# Altium integrated library Micron Memory Parallel NOR Flash.IntLib: 720 symbols (part 36 of 216)
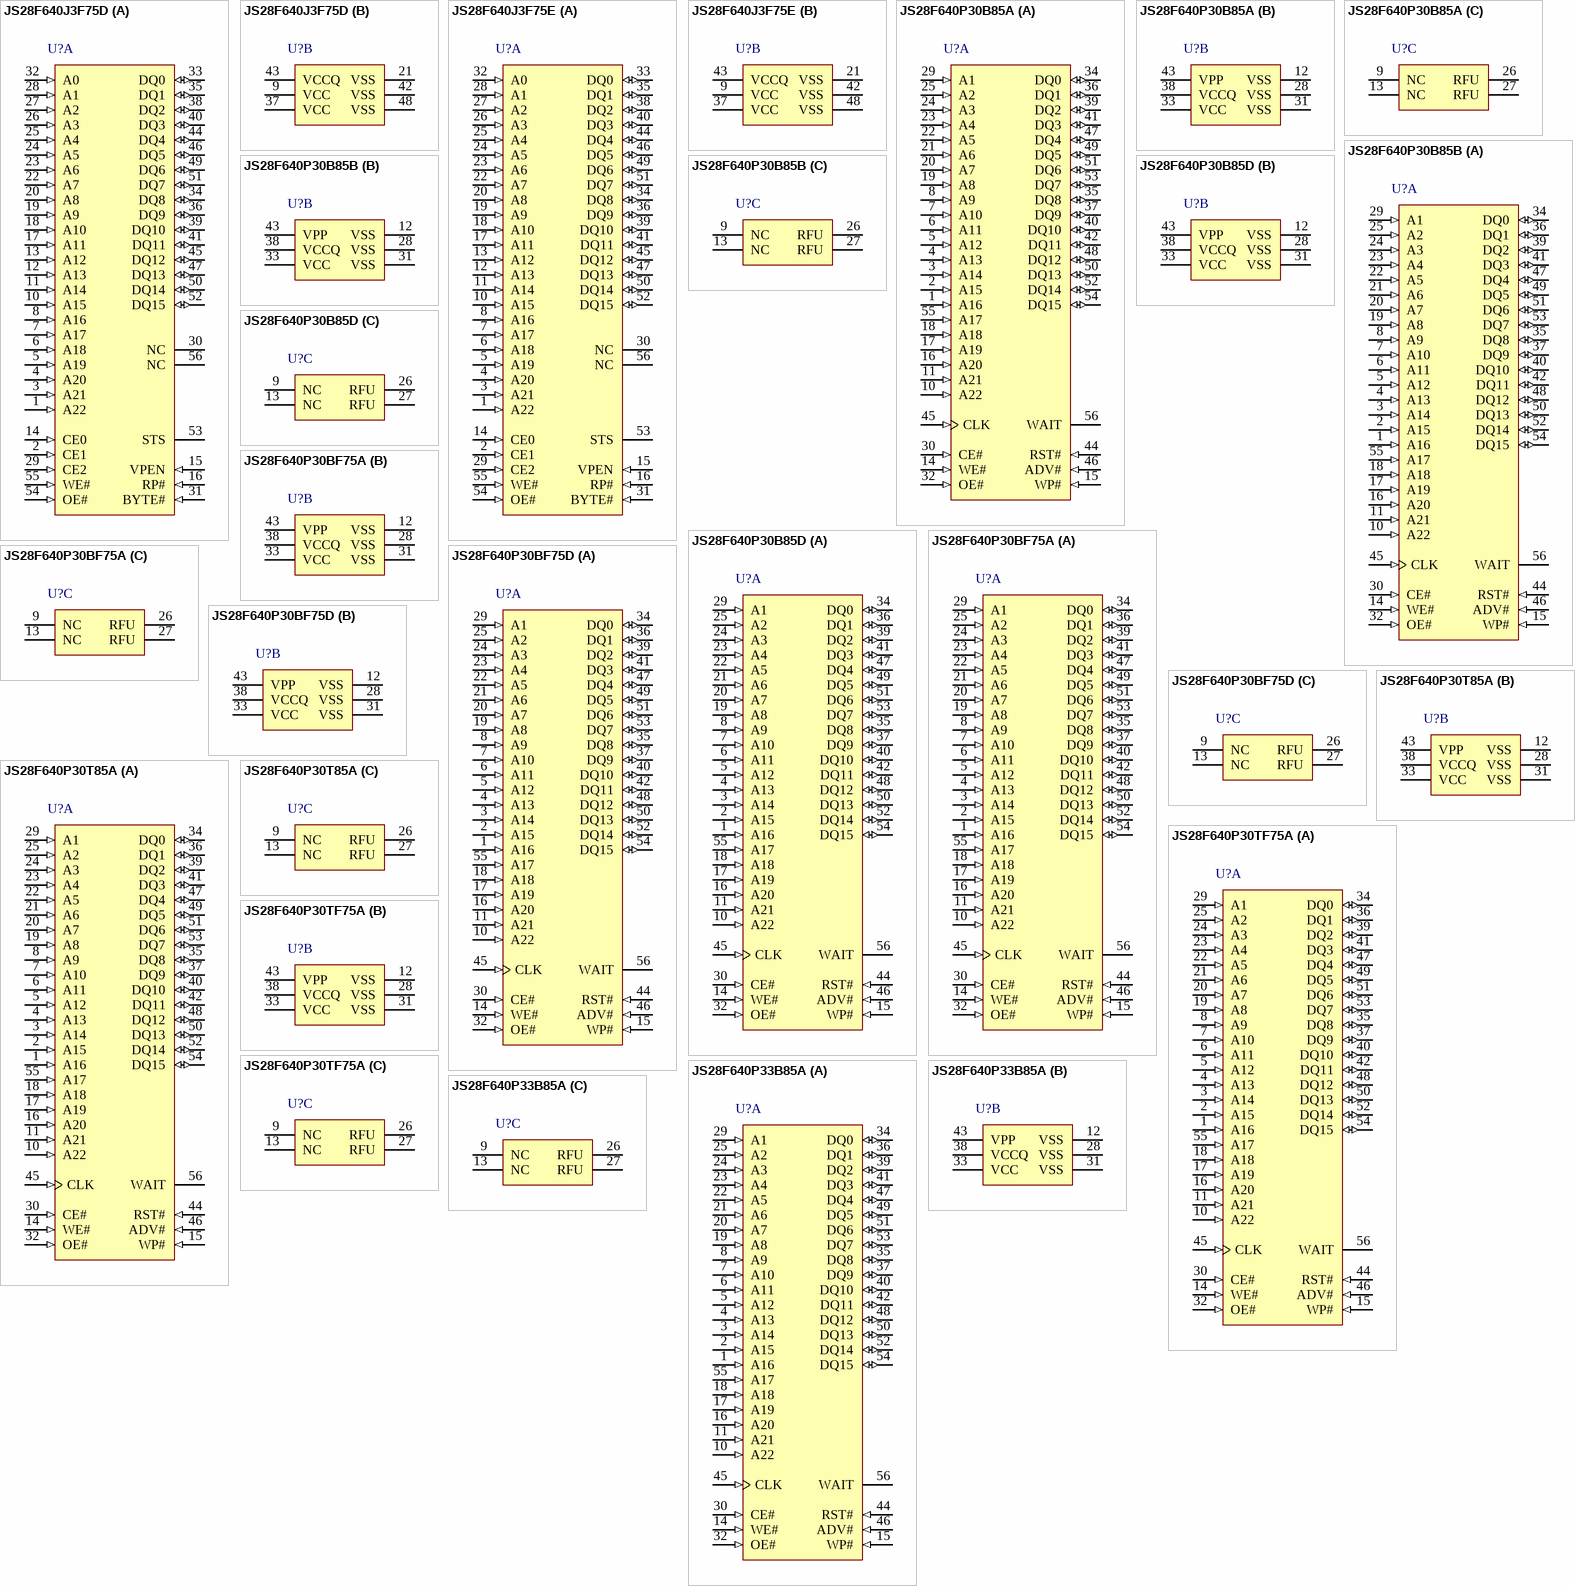
[diagram p93: symbols JS28F640J3F75D to JS28F640P33B85A]

## JS28F640P33B85A
designator U?
64 Mb (x16) Parallel NOR Flash Memory, 85 ns, 2.3 to 3.6 V, 56-pin TSOP (JS), Tray; Part Family: P33; Manufacturer: Micron; PartNumber: JS28F640P33B85A; Density: 64Mb; Op Temp: -40C to +85C; Speed: 85ns; Voltage: 2.3V-3.6V; DatasheetVersion: Rev. 05; PackageVersion: Rev. 12; PackageReference: MICT-JS-56; PackageDescription: 56-Pin TSOP, 18.4 X 14 mm, Pitch 0.5 mm; RoHS: Yes; Width: x16; Mounting Technology: Surface Mount; ComponentLink1Description: Manufacturer URL; ComponentLink1URL: http://www.micron.com/; ComponentLink2Description: Datasheet; ComponentLink2URL: http://www.micron.com/~/media/Documents/Products/Data%20Sheet/NOR%20Flash/Parallel/P33/314749_P33_130nm_Discrete_DS.pdf; ComponentLink3Description: Package Specification; ComponentLink3URL: http://www.micron.com/~/media/Documents/Products/Data%20Sheet/NOR%20Flash/Parallel/P33/320003_P33_65nm_MLC_256MDiscrete_512MStack_DS.pdf
footprint MICT-JS-56_N (SOP, 56-Leads, Body 18.6x14.2mm, Pitch 0.5mm, IPC Medium Density)
part A pins: 1 A16 (in) "Address Input: Device Address Input. 128-Mbit: A[23:1]; 64-Mbit: A[22:1]. WARNING: The active address pins unused in design should not be left float. Please tie them to VCCQ or VSS according to specific design requirements.", 2 A15 (in) "Address Input: Device Address Input. 128-Mbit: A[23:1]; 64-Mbit: A[22:1]. WARNING: The active address pins unused in design should not be left float. Please tie them to VCCQ or VSS according to specific design requirements.", 3 A14 (in) "Address Input: Device Address Input. 128-Mbit: A[23:1]; 64-Mbit: A[22:1]. WARNING: The active address pins unused in design should not be left float. Please tie them to VCCQ or VSS according to specific design requirements.", 4 A13 (in) "Address Input: Device Address Input. 128-Mbit: A[23:1]; 64-Mbit: A[22:1]. WARNING: The active address pins unused in design should not be left float. Please tie them to VCCQ or VSS according to specific design requirements.", 5 A12 (in) "Address Input: Device Address Input. 128-Mbit: A[23:1]; 64-Mbit: A[22:1]. WARNING: The active address pins unused in design should not be left float. Please tie them to VCCQ or VSS according to specific design requirements.", 6 A11 (in) "Address Input: Device Address Input. 128-Mbit: A[23:1]; 64-Mbit: A[22:1]. WARNING: The active address pins unused in design should not be left float. Please tie them to VCCQ or VSS according to specific design requirements.", 7 A10 (in) "Address Input: Device Address Input. 128-Mbit: A[23:1]; 64-Mbit: A[22:1]. WARNING: The active address pins unused in design should not be left float. Please tie them to VCCQ or VSS according to specific design requirements.", 8 A9 (in) "Address Input: Device Address Input. 128-Mbit: A[23:1]; 64-Mbit: A[22:1]. WARNING: The active address pins unused in design should not be left float. Please tie them to VCCQ or VSS according to specific design requirements.", 10 A22 (in) "Address Input: Device Address Input. 128-Mbit: A[23:1]; 64-Mbit: A[22:1]. WARNING: The active address pins unused in design should not be left float. Please tie them to VCCQ or VSS according to specific design requirements.", 11 A21 (in) "Address Input: Device Address Input. 128-Mbit: A[23:1]; 64-Mbit: A[22:1]. WARNING: The active address pins unused in design should not be left float. Please tie them to VCCQ or VSS according to specific design requirements.", 14 WE# (in) "WRITE ENABLE: Active low input. WE# controls writes to the device. Address and data are latched on the rising edge of WE# or CE#, whichever occurs first.", 15 WP# (in) "WRITE PROTECT: Active low input. WP# low enables the lock-down mechanism. Blocks in lockdown cannot be unlocked with the Unlock command. WP# high overrides the lock-down function enabling blocks to be erased or programmed (See Datasheet)", 16 A20 (in) "Address Input: Device Address Input. 128-Mbit: A[23:1]; 64-Mbit: A[22:1]. WARNING: The active address pins unused in design should not be left float. Please tie them to VCCQ or VSS according to specific design requirements.", 17 A19 (in) "Address Input: Device Address Input. 128-Mbit: A[23:1]; 64-Mbit: A[22:1]. WARNING: The active address pins unused in design should not be left float. Please tie them to VCCQ or VSS according to specific design requirements.", 18 A18 (in) "Address Input: Device Address Input. 128-Mbit: A[23:1]; 64-Mbit: A[22:1]. WARNING: The active address pins unused in design should not be left float. Please tie them to VCCQ or VSS according to specific design requirements.", 19 A8 (in) "Address Input: Device Address Input. 128-Mbit: A[23:1]; 64-Mbit: A[22:1]. WARNING: The active address pins unused in design should not be left float. Please tie them to VCCQ or VSS according to specific design requirements.", 20 A7 (in) "Address Input: Device Address Input. 128-Mbit: A[23:1]; 64-Mbit: A[22:1]. WARNING: The active address pins unused in design should not be left float. Please tie them to VCCQ or VSS according to specific design requirements.", 21 A6 (in) "Address Input: Device Address Input. 128-Mbit: A[23:1]; 64-Mbit: A[22:1]. WARNING: The active address pins unused in design should not be left float. Please tie them to VCCQ or VSS according to specific design requirements.", 22 A5 (in) "Address Input: Device Address Input. 128-Mbit: A[23:1]; 64-Mbit: A[22:1]. WARNING: The active address pins unused in design should not be left float. Please tie them to VCCQ or VSS according to specific design requirements.", 23 A4 (in) "Address Input: Device Address Input. 128-Mbit: A[23:1]; 64-Mbit: A[22:1]. WARNING: The active address pins unused in design should not be left float. Please tie them to VCCQ or VSS according to specific design requirements.", 24 A3 (in) "Address Input: Device Address Input. 128-Mbit: A[23:1]; 64-Mbit: A[22:1]. WARNING: The active address pins unused in design should not be left float. Please tie them to VCCQ or VSS according to specific design requirements.", 25 A2 (in) "Address Input: Device Address Input. 128-Mbit: A[23:1]; 64-Mbit: A[22:1]. WARNING: The active address pins unused in design should not be left float. Please tie them to VCCQ or VSS according to specific design requirements.", 29 A1 (in) "Address Input: Device Address Input. 128-Mbit: A[23:1]; 64-Mbit: A[22:1]. WARNING: The active address pins unused in design should not be left float. Please tie them to VCCQ or VSS according to specific design requirements.", 30 CE# (in) "CHIP ENABLE: Active low input. CE# low selects the associated flash memory die. When asserted, flash internal control logic, input buffers, decoders, and sense amplifiers are active. When deasserted, the associated flash die (See Datasheet)", 32 OE# (in) "OUTPUT ENABLE: Active low input. OE# low enables the device’s output data buffers during read cycles. OE# high places the data outputs and WAIT in High-Z.", 34 DQ0 (io) "DATA INPUT/OUTPUTS: Inputs data and commands during write cycles; outputs data during reads of memory, Status Register, OTP Register, and Read Configuration Register. Data balls float when the CE# or OE# are deasserted. Data (See Datasheet)", 35 DQ8 (io) "DATA INPUT/OUTPUTS: Inputs data and commands during write cycles; outputs data during reads of memory, Status Register, OTP Register, and Read Configuration Register. Data balls float when the CE# or OE# are deasserted. Data (See Datasheet)", 36 DQ1 (io) "DATA INPUT/OUTPUTS: Inputs data and commands during write cycles; outputs data during reads of memory, Status Register, OTP Register, and Read Configuration Register. Data balls float when the CE# or OE# are deasserted. Data (See Datasheet)", 37 DQ9 (io) "DATA INPUT/OUTPUTS: Inputs data and commands during write cycles; outputs data during reads of memory, Status Register, OTP Register, and Read Configuration Register. Data balls float when the CE# or OE# are deasserted. Data (See Datasheet)", 39 DQ2 (io) "DATA INPUT/OUTPUTS: Inputs data and commands during write cycles; outputs data during reads of memory, Status Register, OTP Register, and Read Configuration Register. Data balls float when the CE# or OE# are deasserted. Data (See Datasheet)", 40 DQ10 (io) "DATA INPUT/OUTPUTS: Inputs data and commands during write cycles; outputs data during reads of memory, Status Register, OTP Register, and Read Configuration Register. Data balls float when the CE# or OE# are deasserted. Data (See Datasheet)", 41 DQ3 (io) "DATA INPUT/OUTPUTS: Inputs data and commands during write cycles; outputs data during reads of memory, Status Register, OTP Register, and Read Configuration Register. Data balls float when the CE# or OE# are deasserted. Data (See Datasheet)", 42 DQ11 (io) "DATA INPUT/OUTPUTS: Inputs data and commands during write cycles; outputs data during reads of memory, Status Register, OTP Register, and Read Configuration Register. Data balls float when the CE# or OE# are deasserted. Data (See Datasheet)", 44 RST# (in) "RESET: Active low input. RST# resets internal automation and inhibits write operations. This provides data protection during power transitions. RST# high enables normal operation. Exit from reset places the device in (See Datasheet)", 45 CLK (in) "CLOCK: Synchronizes the device with the system’s bus frequency in synchronous-read mode. During synchronous read operations, addresses are latched on the rising edge of ADV#, or on the next valid CLK edge with ADV# low, (See Datasheet)", 46 ADV# (in) "ADDRESS VALID: Active low input. During synchronous read operations, addresses are latched on the rising edge of ADV#, or on the next valid CLK edge with ADV# low, whichever occurs first. In asynchronous mode, the address is (See Datasheet)", 47 DQ4 (io) "DATA INPUT/OUTPUTS: Inputs data and commands during write cycles; outputs data during reads of memory, Status Register, OTP Register, and Read Configuration Register. Data balls float when the CE# or OE# are deasserted. Data (See Datasheet)", 48 DQ12 (io) "DATA INPUT/OUTPUTS: Inputs data and commands during write cycles; outputs data during reads of memory, Status Register, OTP Register, and Read Configuration Register. Data balls float when the CE# or OE# are deasserted. Data (See Datasheet)", 49 DQ5 (io) "DATA INPUT/OUTPUTS: Inputs data and commands during write cycles; outputs data during reads of memory, Status Register, OTP Register, and Read Configuration Register. Data balls float when the CE# or OE# are deasserted. Data (See Datasheet)", 50 DQ13 (io) "DATA INPUT/OUTPUTS: Inputs data and commands during write cycles; outputs data during reads of memory, Status Register, OTP Register, and Read Configuration Register. Data balls float when the CE# or OE# are deasserted. Data (See Datasheet)", 51 DQ6 (io) "DATA INPUT/OUTPUTS: Inputs data and commands during write cycles; outputs data during reads of memory, Status Register, OTP Register, and Read Configuration Register. Data balls float when the CE# or OE# are deasserted. Data (See Datasheet)", 52 DQ14 (io) "DATA INPUT/OUTPUTS: Inputs data and commands during write cycles; outputs data during reads of memory, Status Register, OTP Register, and Read Configuration Register. Data balls float when the CE# or OE# are deasserted. Data (See Datasheet)", 53 DQ7 (io) "DATA INPUT/OUTPUTS: Inputs data and commands during write cycles; outputs data during reads of memory, Status Register, OTP Register, and Read Configuration Register. Data balls float when the CE# or OE# are deasserted. Data (See Datasheet)", 54 DQ15 (io) "DATA INPUT/OUTPUTS: Inputs data and commands during write cycles; outputs data during reads of memory, Status Register, OTP Register, and Read Configuration Register. Data balls float when the CE# or OE# are deasserted. Data (See Datasheet)", 55 A17 (in) "Address Input: Device Address Input. 128-Mbit: A[23:1]; 64-Mbit: A[22:1]. WARNING: The active address pins unused in design should not be left float. Please tie them to VCCQ or VSS according to specific design requirements.", 56 WAIT (hiz) "WAIT: Indicates data valid in synchronous array or non-array burst reads. RCR.10, (WT) determines its polarity when asserted. WAIT’s active output is VOL or VOH when CE# and OE# are VIL. WAIT is high-Z if CE# or OE# is VIH."
part B pins: 12 VSS (power) "GROUND: Connect to system ground. Do not float any VSS connection.", 28 VSS (power) "GROUND: Connect to system ground. Do not float any VSS connection.", 31 VSS (power) "GROUND: Connect to system ground. Do not float any VSS connection.", 33 VCC (power) "DEVICE CORE POWER SUPPLY: Core (logic) source voltage. Writes to the flash array are inhibited when VCC =< VLKO. Operations at invalid VCC voltages should not be attempted.", 38 VCCQ (power) "OUTPUT POWER SUPPLY: Output-driver source voltage.", 43 VPP (power) "ERASE AND PROGRAM POWER: A valid voltage on this pin allows erasing or programming. Memory contents cannot be altered when VPP =< VPPLK. Block erase and program at invalid VPP voltages should not be attempted. Set VPP = VPPL (See Datasheet)"
part C pins: 9 NC "NO CONNECT: No internal connection; can be driven or floated.", 13 NC "NO CONNECT: No internal connection; can be driven or floated.", 26 RFU "RESERVED FOR FUTURE USE: Reserved by Numonyx for future device functionality and enhancement. These should be treated in the same way as a Don’t Use (DU) signal.", 27 RFU "RESERVED FOR FUTURE USE: Reserved by Numonyx for future device functionality and enhancement. These should be treated in the same way as a Don’t Use (DU) signal."

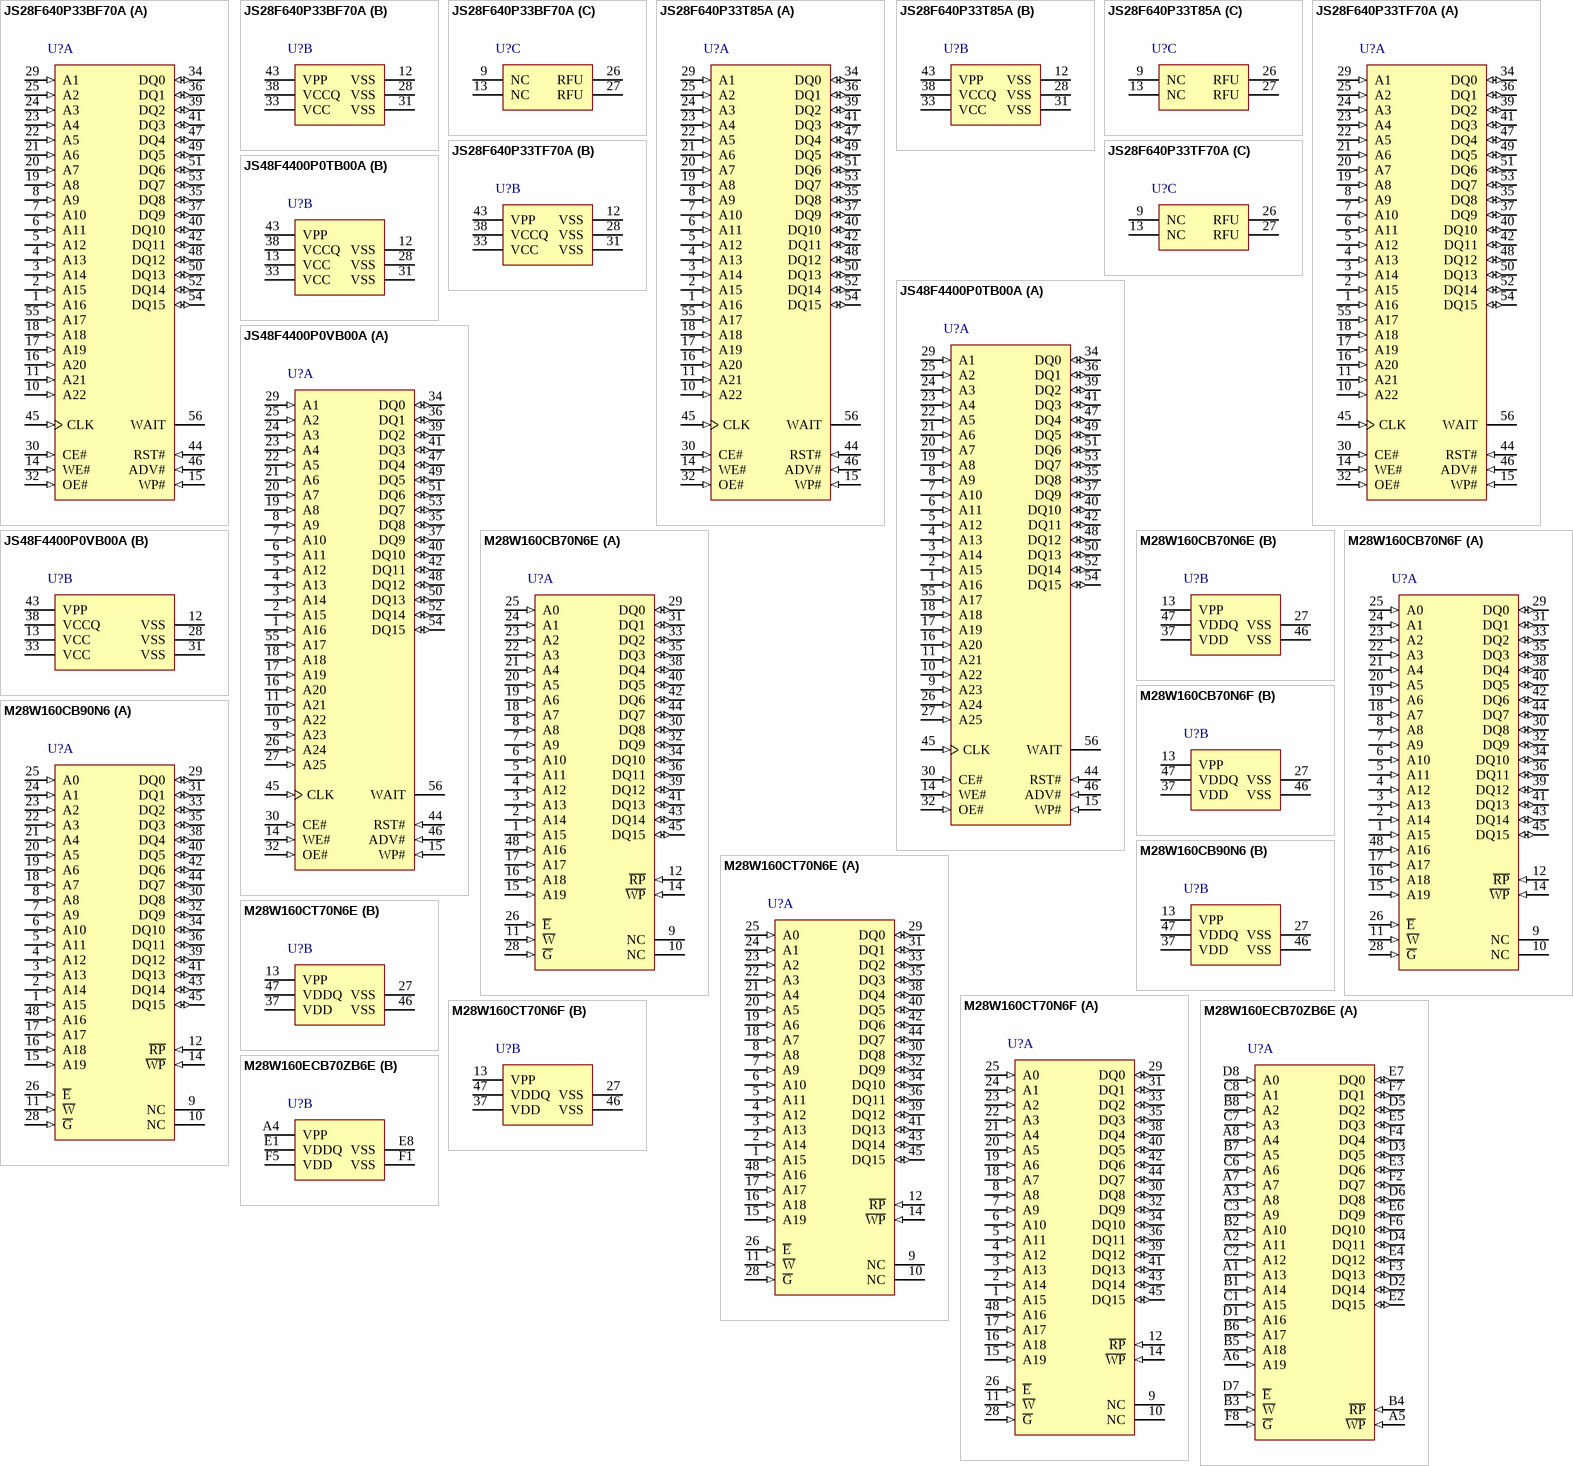
[diagram p10: symbols JS28F640P33BF70A to M28W160ECB70ZB6E]

## JS28F640P33BF70A
designator U?
64 Mb (x16) Parallel NOR Flash Memory, 70 ns, 2.3 to 3.6 V, 56-pin TSOP (JS), Tray; Part Family: P33; Manufacturer: Micron; PartNumber: JS28F640P33BF70A; Density: 64Mb; Op Temp: -40C to +85C; Speed: 70ns; Voltage: 2.3V-3.6V; DatasheetVersion: Rev.04; PackageVersion: Rev. 12; PackageReference: MICT-JS-56; PackageDescription: 56-Pin TSOP, 18.4 X 14 mm, Pitch 0.5 mm; RoHS: Yes; Width: x16; Mounting Technology: Surface Mount; ComponentLink1Description: Manufacturer URL; ComponentLink1URL: http://www.micron.com/; ComponentLink2Description: Datasheet; ComponentLink2URL: http://www.micron.com/~/media/Documents/Products/Data%20Sheet/NOR%20Flash/Parallel/P33/208034_P33_65nm_SBC_64M_128M_Discrete_DS.pdf; ComponentLink3Description: Package Specification; ComponentLink3URL: http://www.micron.com/~/media/Documents/Products/Data%20Sheet/NOR%20Flash/Parallel/P33/320003_P33_65nm_MLC_256MDiscrete_512MStack_DS.pdf
footprint MICT-JS-56_N (SOP, 56-Leads, Body 18.6x14.2mm, Pitch 0.5mm, IPC Medium Density)
part A pins: 1 A16 (in) "Address Input: Device Address Input. 128-Mbit: A[23:1]; 64-Mbit: A[22:1]. WARNING: The active address pins unused in design should not be left float. Please tie them to VCCQ or VSS according to specific design requirements.", 2 A15 (in) "Address Input: Device Address Input. 128-Mbit: A[23:1]; 64-Mbit: A[22:1]. WARNING: The active address pins unused in design should not be left float. Please tie them to VCCQ or VSS according to specific design requirements.", 3 A14 (in) "Address Input: Device Address Input. 128-Mbit: A[23:1]; 64-Mbit: A[22:1]. WARNING: The active address pins unused in design should not be left float. Please tie them to VCCQ or VSS according to specific design requirements.", 4 A13 (in) "Address Input: Device Address Input. 128-Mbit: A[23:1]; 64-Mbit: A[22:1]. WARNING: The active address pins unused in design should not be left float. Please tie them to VCCQ or VSS according to specific design requirements.", 5 A12 (in) "Address Input: Device Address Input. 128-Mbit: A[23:1]; 64-Mbit: A[22:1]. WARNING: The active address pins unused in design should not be left float. Please tie them to VCCQ or VSS according to specific design requirements.", 6 A11 (in) "Address Input: Device Address Input. 128-Mbit: A[23:1]; 64-Mbit: A[22:1]. WARNING: The active address pins unused in design should not be left float. Please tie them to VCCQ or VSS according to specific design requirements.", 7 A10 (in) "Address Input: Device Address Input. 128-Mbit: A[23:1]; 64-Mbit: A[22:1]. WARNING: The active address pins unused in design should not be left float. Please tie them to VCCQ or VSS according to specific design requirements.", 8 A9 (in) "Address Input: Device Address Input. 128-Mbit: A[23:1]; 64-Mbit: A[22:1]. WARNING: The active address pins unused in design should not be left float. Please tie them to VCCQ or VSS according to specific design requirements.", 10 A22 (in) "Address Input: Device Address Input. 128-Mbit: A[23:1]; 64-Mbit: A[22:1]. WARNING: The active address pins unused in design should not be left float. Please tie them to VCCQ or VSS according to specific design requirements.", 11 A21 (in) "Address Input: Device Address Input. 128-Mbit: A[23:1]; 64-Mbit: A[22:1]. WARNING: The active address pins unused in design should not be left float. Please tie them to VCCQ or VSS according to specific design requirements.", 14 WE# (in) "WRITE ENABLE: Active low input. WE# controls writes to the device. Address and data are latched on the rising edge of WE# or CE#, whichever occurs first.", 15 WP# (in) "WRITE PROTECT: Active low input. WP# low enables the lock-down mechanism. Blocks in lockdown cannot be unlocked with the Unlock command. WP# high overrides the lock-down function enabling blocks to be erased or programmed (See Datasheet)", 16 A20 (in) "Address Input: Device Address Input. 128-Mbit: A[23:1]; 64-Mbit: A[22:1]. WARNING: The active address pins unused in design should not be left float. Please tie them to VCCQ or VSS according to specific design requirements.", 17 A19 (in) "Address Input: Device Address Input. 128-Mbit: A[23:1]; 64-Mbit: A[22:1]. WARNING: The active address pins unused in design should not be left float. Please tie them to VCCQ or VSS according to specific design requirements.", 18 A18 (in) "Address Input: Device Address Input. 128-Mbit: A[23:1]; 64-Mbit: A[22:1]. WARNING: The active address pins unused in design should not be left float. Please tie them to VCCQ or VSS according to specific design requirements.", 19 A8 (in) "Address Input: Device Address Input. 128-Mbit: A[23:1]; 64-Mbit: A[22:1]. WARNING: The active address pins unused in design should not be left float. Please tie them to VCCQ or VSS according to specific design requirements.", 20 A7 (in) "Address Input: Device Address Input. 128-Mbit: A[23:1]; 64-Mbit: A[22:1]. WARNING: The active address pins unused in design should not be left float. Please tie them to VCCQ or VSS according to specific design requirements.", 21 A6 (in) "Address Input: Device Address Input. 128-Mbit: A[23:1]; 64-Mbit: A[22:1]. WARNING: The active address pins unused in design should not be left float. Please tie them to VCCQ or VSS according to specific design requirements.", 22 A5 (in) "Address Input: Device Address Input. 128-Mbit: A[23:1]; 64-Mbit: A[22:1]. WARNING: The active address pins unused in design should not be left float. Please tie them to VCCQ or VSS according to specific design requirements.", 23 A4 (in) "Address Input: Device Address Input. 128-Mbit: A[23:1]; 64-Mbit: A[22:1]. WARNING: The active address pins unused in design should not be left float. Please tie them to VCCQ or VSS according to specific design requirements.", 24 A3 (in) "Address Input: Device Address Input. 128-Mbit: A[23:1]; 64-Mbit: A[22:1]. WARNING: The active address pins unused in design should not be left float. Please tie them to VCCQ or VSS according to specific design requirements.", 25 A2 (in) "Address Input: Device Address Input. 128-Mbit: A[23:1]; 64-Mbit: A[22:1]. WARNING: The active address pins unused in design should not be left float. Please tie them to VCCQ or VSS according to specific design requirements.", 29 A1 (in) "Address Input: Device Address Input. 128-Mbit: A[23:1]; 64-Mbit: A[22:1]. WARNING: The active address pins unused in design should not be left float. Please tie them to VCCQ or VSS according to specific design requirements.", 30 CE# (in) "CHIP ENABLE: Active low input. CE# low selects the associated flash memory die. When asserted, flash internal control logic, input buffers, decoders, and sense amplifiers are active. When deasserted, the associated flash die (See Datasheet)", 32 OE# (in) "OUTPUT ENABLE: Active low input. OE# low enables the device’s output data buffers during read cycles. OE# high places the data outputs and WAIT in High-Z.", 34 DQ0 (io) "DATA INPUT/OUTPUTS: Inputs data and commands during write cycles; outputs data during reads of memory, Status Register, OTP Register, and Read Configuration Register. Data balls float when the CE# or OE# are deasserted. Data (See Datasheet)", 35 DQ8 (io) "DATA INPUT/OUTPUTS: Inputs data and commands during write cycles; outputs data during reads of memory, Status Register, OTP Register, and Read Configuration Register. Data balls float when the CE# or OE# are deasserted. Data (See Datasheet)", 36 DQ1 (io) "DATA INPUT/OUTPUTS: Inputs data and commands during write cycles; outputs data during reads of memory, Status Register, OTP Register, and Read Configuration Register. Data balls float when the CE# or OE# are deasserted. Data (See Datasheet)", 37 DQ9 (io) "DATA INPUT/OUTPUTS: Inputs data and commands during write cycles; outputs data during reads of memory, Status Register, OTP Register, and Read Configuration Register. Data balls float when the CE# or OE# are deasserted. Data (See Datasheet)", 39 DQ2 (io) "DATA INPUT/OUTPUTS: Inputs data and commands during write cycles; outputs data during reads of memory, Status Register, OTP Register, and Read Configuration Register. Data balls float when the CE# or OE# are deasserted. Data (See Datasheet)", 40 DQ10 (io) "DATA INPUT/OUTPUTS: Inputs data and commands during write cycles; outputs data during reads of memory, Status Register, OTP Register, and Read Configuration Register. Data balls float when the CE# or OE# are deasserted. Data (See Datasheet)", 41 DQ3 (io) "DATA INPUT/OUTPUTS: Inputs data and commands during write cycles; outputs data during reads of memory, Status Register, OTP Register, and Read Configuration Register. Data balls float when the CE# or OE# are deasserted. Data (See Datasheet)", 42 DQ11 (io) "DATA INPUT/OUTPUTS: Inputs data and commands during write cycles; outputs data during reads of memory, Status Register, OTP Register, and Read Configuration Register. Data balls float when the CE# or OE# are deasserted. Data (See Datasheet)", 44 RST# (in) "RESET: Active low input. RST# resets internal automation and inhibits write operations. This provides data protection during power transitions. RST# high enables normal operation. Exit from reset places the device in (See Datasheet)", 45 CLK (in) "CLOCK: Synchronizes the device with the system’s bus frequency in synchronous-read mode. During synchronous read operations, addresses are latched on the rising edge of ADV#, or on the next valid CLK edge with ADV# low, (See Datasheet)", 46 ADV# (in) "ADDRESS VALID: Active low input. During synchronous read operations, addresses are latched on the rising edge of ADV#, or on the next valid CLK edge with ADV# low, whichever occurs first. In asynchronous mode, the address is (See Datasheet)", 47 DQ4 (io) "DATA INPUT/OUTPUTS: Inputs data and commands during write cycles; outputs data during reads of memory, Status Register, OTP Register, and Read Configuration Register. Data balls float when the CE# or OE# are deasserted. Data (See Datasheet)", 48 DQ12 (io) "DATA INPUT/OUTPUTS: Inputs data and commands during write cycles; outputs data during reads of memory, Status Register, OTP Register, and Read Configuration Register. Data balls float when the CE# or OE# are deasserted. Data (See Datasheet)", 49 DQ5 (io) "DATA INPUT/OUTPUTS: Inputs data and commands during write cycles; outputs data during reads of memory, Status Register, OTP Register, and Read Configuration Register. Data balls float when the CE# or OE# are deasserted. Data (See Datasheet)", 50 DQ13 (io) "DATA INPUT/OUTPUTS: Inputs data and commands during write cycles; outputs data during reads of memory, Status Register, OTP Register, and Read Configuration Register. Data balls float when the CE# or OE# are deasserted. Data (See Datasheet)", 51 DQ6 (io) "DATA INPUT/OUTPUTS: Inputs data and commands during write cycles; outputs data during reads of memory, Status Register, OTP Register, and Read Configuration Register. Data balls float when the CE# or OE# are deasserted. Data (See Datasheet)", 52 DQ14 (io) "DATA INPUT/OUTPUTS: Inputs data and commands during write cycles; outputs data during reads of memory, Status Register, OTP Register, and Read Configuration Register. Data balls float when the CE# or OE# are deasserted. Data (See Datasheet)", 53 DQ7 (io) "DATA INPUT/OUTPUTS: Inputs data and commands during write cycles; outputs data during reads of memory, Status Register, OTP Register, and Read Configuration Register. Data balls float when the CE# or OE# are deasserted. Data (See Datasheet)", 54 DQ15 (io) "DATA INPUT/OUTPUTS: Inputs data and commands during write cycles; outputs data during reads of memory, Status Register, OTP Register, and Read Configuration Register. Data balls float when the CE# or OE# are deasserted. Data (See Datasheet)", 55 A17 (in) "Address Input: Device Address Input. 128-Mbit: A[23:1]; 64-Mbit: A[22:1]. WARNING: The active address pins unused in design should not be left float. Please tie them to VCCQ or VSS according to specific design requirements.", 56 WAIT (hiz) "WAIT: Indicates data valid in synchronous array or non-array burst reads. RCR.10, (WT) determines its polarity when asserted. WAIT’s active output is VOL or VOH when CE# and OE# are VIL. WAIT is high-Z if CE# or OE# is VIH."
part B pins: 12 VSS (power) "GROUND: Connect to system ground. Do not float any VSS connection.", 28 VSS (power) "GROUND: Connect to system ground. Do not float any VSS connection.", 31 VSS (power) "GROUND: Connect to system ground. Do not float any VSS connection.", 33 VCC (power) "DEVICE CORE POWER SUPPLY: Core (logic) source voltage. Writes to the flash array are inhibited when VCC =< VLKO. Operations at invalid VCC voltages should not be attempted.", 38 VCCQ (power) "OUTPUT POWER SUPPLY: Output-driver source voltage.", 43 VPP (power) "ERASE AND PROGRAM POWER: A valid voltage on this pin allows erasing or programming. Memory contents cannot be altered when VPP =< VPPLK. Block erase and program at invalid VPP voltages should not be attempted. Set VPP = VPPL (See Datasheet)"
part C pins: 9 NC "NO CONNECT: No internal connection; can be driven or floated.", 13 NC "NO CONNECT: No internal connection; can be driven or floated.", 26 RFU "RESERVED FOR FUTURE USE: Reserved by Numonyx for future device functionality and enhancement. These should be treated in the same way as a Don’t Use (DU) signal.", 27 RFU "RESERVED FOR FUTURE USE: Reserved by Numonyx for future device functionality and enhancement. These should be treated in the same way as a Don’t Use (DU) signal."

## JS28F640P33T85A
designator U?
64 Mb (x16) Parallel NOR Flash Memory, 85 ns, 2.3 to 3.6 V, 56-pin TSOP (JS), Tray; Part Family: P33; Manufacturer: Micron; PartNumber: JS28F640P33T85A; Density: 64Mb; Op Temp: -40C to +85C; Speed: 85ns; Voltage: 2.3V-3.6V; DatasheetVersion: Rev. 05; PackageVersion: Rev. 12; PackageReference: MICT-JS-56; PackageDescription: 56-Pin TSOP, 18.4 X 14 mm, Pitch 0.5 mm; RoHS: Yes; Width: x16; Mounting Technology: Surface Mount; ComponentLink1Description: Manufacturer URL; ComponentLink1URL: http://www.micron.com/; ComponentLink2Description: Datasheet; ComponentLink2URL: http://www.micron.com/~/media/Documents/Products/Data%20Sheet/NOR%20Flash/Parallel/P33/314749_P33_130nm_Discrete_DS.pdf; ComponentLink3Description: Package Specification; ComponentLink3URL: http://www.micron.com/~/media/Documents/Products/Data%20Sheet/NOR%20Flash/Parallel/P33/320003_P33_65nm_MLC_256MDiscrete_512MStack_DS.pdf
footprint MICT-JS-56_N (SOP, 56-Leads, Body 18.6x14.2mm, Pitch 0.5mm, IPC Medium Density)
part A pins: 1 A16 (in) "Address Input: Device Address Input. 128-Mbit: A[23:1]; 64-Mbit: A[22:1]. WARNING: The active address pins unused in design should not be left float. Please tie them to VCCQ or VSS according to specific design requirements.", 2 A15 (in) "Address Input: Device Address Input. 128-Mbit: A[23:1]; 64-Mbit: A[22:1]. WARNING: The active address pins unused in design should not be left float. Please tie them to VCCQ or VSS according to specific design requirements.", 3 A14 (in) "Address Input: Device Address Input. 128-Mbit: A[23:1]; 64-Mbit: A[22:1]. WARNING: The active address pins unused in design should not be left float. Please tie them to VCCQ or VSS according to specific design requirements.", 4 A13 (in) "Address Input: Device Address Input. 128-Mbit: A[23:1]; 64-Mbit: A[22:1]. WARNING: The active address pins unused in design should not be left float. Please tie them to VCCQ or VSS according to specific design requirements.", 5 A12 (in) "Address Input: Device Address Input. 128-Mbit: A[23:1]; 64-Mbit: A[22:1]. WARNING: The active address pins unused in design should not be left float. Please tie them to VCCQ or VSS according to specific design requirements.", 6 A11 (in) "Address Input: Device Address Input. 128-Mbit: A[23:1]; 64-Mbit: A[22:1]. WARNING: The active address pins unused in design should not be left float. Please tie them to VCCQ or VSS according to specific design requirements.", 7 A10 (in) "Address Input: Device Address Input. 128-Mbit: A[23:1]; 64-Mbit: A[22:1]. WARNING: The active address pins unused in design should not be left float. Please tie them to VCCQ or VSS according to specific design requirements.", 8 A9 (in) "Address Input: Device Address Input. 128-Mbit: A[23:1]; 64-Mbit: A[22:1]. WARNING: The active address pins unused in design should not be left float. Please tie them to VCCQ or VSS according to specific design requirements.", 10 A22 (in) "Address Input: Device Address Input. 128-Mbit: A[23:1]; 64-Mbit: A[22:1]. WARNING: The active address pins unused in design should not be left float. Please tie them to VCCQ or VSS according to specific design requirements.", 11 A21 (in) "Address Input: Device Address Input. 128-Mbit: A[23:1]; 64-Mbit: A[22:1]. WARNING: The active address pins unused in design should not be left float. Please tie them to VCCQ or VSS according to specific design requirements.", 14 WE# (in) "WRITE ENABLE: Active low input. WE# controls writes to the device. Address and data are latched on the rising edge of WE# or CE#, whichever occurs first.", 15 WP# (in) "WRITE PROTECT: Active low input. WP# low enables the lock-down mechanism. Blocks in lockdown cannot be unlocked with the Unlock command. WP# high overrides the lock-down function enabling blocks to be erased or programmed (See Datasheet)", 16 A20 (in) "Address Input: Device Address Input. 128-Mbit: A[23:1]; 64-Mbit: A[22:1]. WARNING: The active address pins unused in design should not be left float. Please tie them to VCCQ or VSS according to specific design requirements.", 17 A19 (in) "Address Input: Device Address Input. 128-Mbit: A[23:1]; 64-Mbit: A[22:1]. WARNING: The active address pins unused in design should not be left float. Please tie them to VCCQ or VSS according to specific design requirements.", 18 A18 (in) "Address Input: Device Address Input. 128-Mbit: A[23:1]; 64-Mbit: A[22:1]. WARNING: The active address pins unused in design should not be left float. Please tie them to VCCQ or VSS according to specific design requirements.", 19 A8 (in) "Address Input: Device Address Input. 128-Mbit: A[23:1]; 64-Mbit: A[22:1]. WARNING: The active address pins unused in design should not be left float. Please tie them to VCCQ or VSS according to specific design requirements.", 20 A7 (in) "Address Input: Device Address Input. 128-Mbit: A[23:1]; 64-Mbit: A[22:1]. WARNING: The active address pins unused in design should not be left float. Please tie them to VCCQ or VSS according to specific design requirements.", 21 A6 (in) "Address Input: Device Address Input. 128-Mbit: A[23:1]; 64-Mbit: A[22:1]. WARNING: The active address pins unused in design should not be left float. Please tie them to VCCQ or VSS according to specific design requirements.", 22 A5 (in) "Address Input: Device Address Input. 128-Mbit: A[23:1]; 64-Mbit: A[22:1]. WARNING: The active address pins unused in design should not be left float. Please tie them to VCCQ or VSS according to specific design requirements.", 23 A4 (in) "Address Input: Device Address Input. 128-Mbit: A[23:1]; 64-Mbit: A[22:1]. WARNING: The active address pins unused in design should not be left float. Please tie them to VCCQ or VSS according to specific design requirements.", 24 A3 (in) "Address Input: Device Address Input. 128-Mbit: A[23:1]; 64-Mbit: A[22:1]. WARNING: The active address pins unused in design should not be left float. Please tie them to VCCQ or VSS according to specific design requirements.", 25 A2 (in) "Address Input: Device Address Input. 128-Mbit: A[23:1]; 64-Mbit: A[22:1]. WARNING: The active address pins unused in design should not be left float. Please tie them to VCCQ or VSS according to specific design requirements.", 29 A1 (in) "Address Input: Device Address Input. 128-Mbit: A[23:1]; 64-Mbit: A[22:1]. WARNING: The active address pins unused in design should not be left float. Please tie them to VCCQ or VSS according to specific design requirements.", 30 CE# (in) "CHIP ENABLE: Active low input. CE# low selects the associated flash memory die. When asserted, flash internal control logic, input buffers, decoders, and sense amplifiers are active. When deasserted, the associated flash die (See Datasheet)", 32 OE# (in) "OUTPUT ENABLE: Active low input. OE# low enables the device’s output data buffers during read cycles. OE# high places the data outputs and WAIT in High-Z.", 34 DQ0 (io) "DATA INPUT/OUTPUTS: Inputs data and commands during write cycles; outputs data during reads of memory, Status Register, OTP Register, and Read Configuration Register. Data balls float when the CE# or OE# are deasserted. Data (See Datasheet)", 35 DQ8 (io) "DATA INPUT/OUTPUTS: Inputs data and commands during write cycles; outputs data during reads of memory, Status Register, OTP Register, and Read Configuration Register. Data balls float when the CE# or OE# are deasserted. Data (See Datasheet)", 36 DQ1 (io) "DATA INPUT/OUTPUTS: Inputs data and commands during write cycles; outputs data during reads of memory, Status Register, OTP Register, and Read Configuration Register. Data balls float when the CE# or OE# are deasserted. Data (See Datasheet)", 37 DQ9 (io) "DATA INPUT/OUTPUTS: Inputs data and commands during write cycles; outputs data during reads of memory, Status Register, OTP Register, and Read Configuration Register. Data balls float when the CE# or OE# are deasserted. Data (See Datasheet)", 39 DQ2 (io) "DATA INPUT/OUTPUTS: Inputs data and commands during write cycles; outputs data during reads of memory, Status Register, OTP Register, and Read Configuration Register. Data balls float when the CE# or OE# are deasserted. Data (See Datasheet)", 40 DQ10 (io) "DATA INPUT/OUTPUTS: Inputs data and commands during write cycles; outputs data during reads of memory, Status Register, OTP Register, and Read Configuration Register. Data balls float when the CE# or OE# are deasserted. Data (See Datasheet)", 41 DQ3 (io) "DATA INPUT/OUTPUTS: Inputs data and commands during write cycles; outputs data during reads of memory, Status Register, OTP Register, and Read Configuration Register. Data balls float when the CE# or OE# are deasserted. Data (See Datasheet)", 42 DQ11 (io) "DATA INPUT/OUTPUTS: Inputs data and commands during write cycles; outputs data during reads of memory, Status Register, OTP Register, and Read Configuration Register. Data balls float when the CE# or OE# are deasserted. Data (See Datasheet)", 44 RST# (in) "RESET: Active low input. RST# resets internal automation and inhibits write operations. This provides data protection during power transitions. RST# high enables normal operation. Exit from reset places the device in (See Datasheet)", 45 CLK (in) "CLOCK: Synchronizes the device with the system’s bus frequency in synchronous-read mode. During synchronous read operations, addresses are latched on the rising edge of ADV#, or on the next valid CLK edge with ADV# low, (See Datasheet)", 46 ADV# (in) "ADDRESS VALID: Active low input. During synchronous read operations, addresses are latched on the rising edge of ADV#, or on the next valid CLK edge with ADV# low, whichever occurs first. In asynchronous mode, the address is (See Datasheet)", 47 DQ4 (io) "DATA INPUT/OUTPUTS: Inputs data and commands during write cycles; outputs data during reads of memory, Status Register, OTP Register, and Read Configuration Register. Data balls float when the CE# or OE# are deasserted. Data (See Datasheet)", 48 DQ12 (io) "DATA INPUT/OUTPUTS: Inputs data and commands during write cycles; outputs data during reads of memory, Status Register, OTP Register, and Read Configuration Register. Data balls float when the CE# or OE# are deasserted. Data (See Datasheet)", 49 DQ5 (io) "DATA INPUT/OUTPUTS: Inputs data and commands during write cycles; outputs data during reads of memory, Status Register, OTP Register, and Read Configuration Register. Data balls float when the CE# or OE# are deasserted. Data (See Datasheet)", 50 DQ13 (io) "DATA INPUT/OUTPUTS: Inputs data and commands during write cycles; outputs data during reads of memory, Status Register, OTP Register, and Read Configuration Register. Data balls float when the CE# or OE# are deasserted. Data (See Datasheet)", 51 DQ6 (io) "DATA INPUT/OUTPUTS: Inputs data and commands during write cycles; outputs data during reads of memory, Status Register, OTP Register, and Read Configuration Register. Data balls float when the CE# or OE# are deasserted. Data (See Datasheet)", 52 DQ14 (io) "DATA INPUT/OUTPUTS: Inputs data and commands during write cycles; outputs data during reads of memory, Status Register, OTP Register, and Read Configuration Register. Data balls float when the CE# or OE# are deasserted. Data (See Datasheet)", 53 DQ7 (io) "DATA INPUT/OUTPUTS: Inputs data and commands during write cycles; outputs data during reads of memory, Status Register, OTP Register, and Read Configuration Register. Data balls float when the CE# or OE# are deasserted. Data (See Datasheet)", 54 DQ15 (io) "DATA INPUT/OUTPUTS: Inputs data and commands during write cycles; outputs data during reads of memory, Status Register, OTP Register, and Read Configuration Register. Data balls float when the CE# or OE# are deasserted. Data (See Datasheet)", 55 A17 (in) "Address Input: Device Address Input. 128-Mbit: A[23:1]; 64-Mbit: A[22:1]. WARNING: The active address pins unused in design should not be left float. Please tie them to VCCQ or VSS according to specific design requirements.", 56 WAIT (hiz) "WAIT: Indicates data valid in synchronous array or non-array burst reads. RCR.10, (WT) determines its polarity when asserted. WAIT’s active output is VOL or VOH when CE# and OE# are VIL. WAIT is high-Z if CE# or OE# is VIH."
part B pins: 12 VSS (power) "GROUND: Connect to system ground. Do not float any VSS connection.", 28 VSS (power) "GROUND: Connect to system ground. Do not float any VSS connection.", 31 VSS (power) "GROUND: Connect to system ground. Do not float any VSS connection.", 33 VCC (power) "DEVICE CORE POWER SUPPLY: Core (logic) source voltage. Writes to the flash array are inhibited when VCC =< VLKO. Operations at invalid VCC voltages should not be attempted.", 38 VCCQ (power) "OUTPUT POWER SUPPLY: Output-driver source voltage.", 43 VPP (power) "ERASE AND PROGRAM POWER: A valid voltage on this pin allows erasing or programming. Memory contents cannot be altered when VPP =< VPPLK. Block erase and program at invalid VPP voltages should not be attempted. Set VPP = VPPL (See Datasheet)"
part C pins: 9 NC "NO CONNECT: No internal connection; can be driven or floated.", 13 NC "NO CONNECT: No internal connection; can be driven or floated.", 26 RFU "RESERVED FOR FUTURE USE: Reserved by Numonyx for future device functionality and enhancement. These should be treated in the same way as a Don’t Use (DU) signal.", 27 RFU "RESERVED FOR FUTURE USE: Reserved by Numonyx for future device functionality and enhancement. These should be treated in the same way as a Don’t Use (DU) signal."